# EAGLE library part MOD_ARDUINO (library akita)
Standard Arduino shield
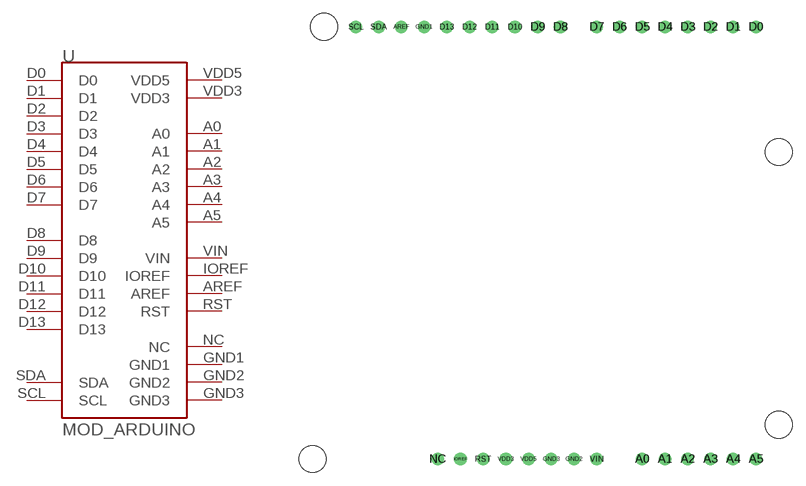
[diagram p163: symbol with the pads of MOD_ARDUINO; footprint MOD_ARDUINO]

Designator prefix U

## MOD_ARDUINO  [MOD_ARDUINO]
A0  A0
A1  A1
A2  A2
A3  A3
A4  A4
A5  A5
AREF  AREF
D0  D0
D1  D1
D2  D2
D3  D3
D4  D4
D5  D5
D6  D6
D7  D7
D8  D8
D9  D9
D10  D10
D11  D11
D12  D12
D13  D13
GND1  GND1
GND2  GND2
GND3  GND3
IOREF  IOREF
NC  NC
RST  RST
SCL  SCL
SDA  SDA
VDD3  VDD3
VDD5  VDD5
VIN  VIN

## Footprint MOD_ARDUINO (pad centres in mm)
Standard Arduino Shield
drill 0.9: A0 50.8,2.54; A1 53.34,2.54; A2 55.88,2.54; A3 58.42,2.54; A4 60.96,2.54; A5 63.5,2.54; AREF 23.876,50.8; D0 63.5,50.8; D1 60.96,50.8; D2 58.42,50.8; D3 55.88,50.8; D4 53.34,50.8; D5 50.8,50.8; D6 48.26,50.8; D7 45.72,50.8; D8 41.656,50.8; D9 39.116,50.8; D10 36.576,50.8; D11 34.036,50.8; D12 31.496,50.8; D13 28.956,50.8; GND1 26.416,50.8; GND2 43.18,2.54; GND3 40.64,2.54; IOREF 30.48,2.54; NC 27.94,2.54; RST 33.02,2.54; SCL 18.796,50.8; SDA 21.336,50.8; VDD3 35.56,2.54; VDD5 38.1,2.54; VIN 45.72,2.54
hole 3 at 66.04,6.35
hole 3 at 66.04,36.83
hole 3 at 13.97,2.54
hole 3 at 15.24,50.8